# Altium schematic symbol library Connector.SchLib: 64 symbols
Pins are listed as number, name and electrical type; pins without a type are passive.

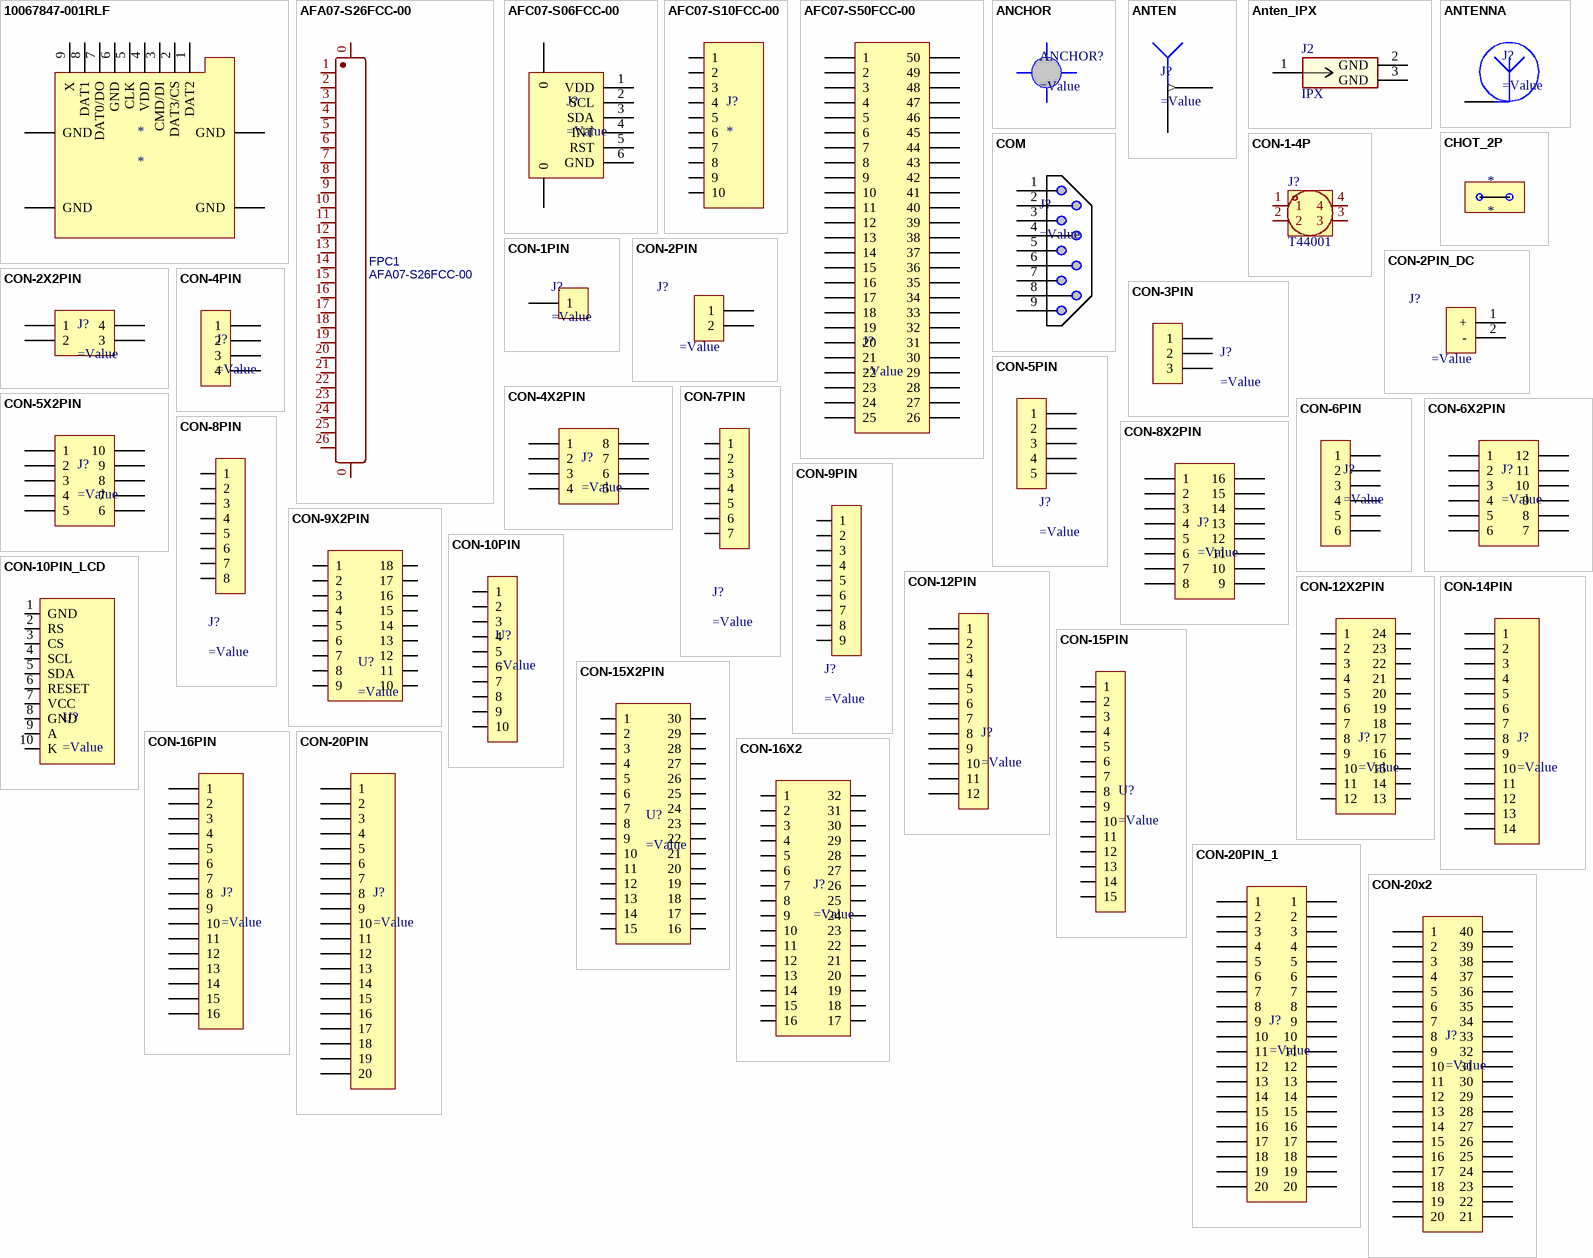
[diagram p0: symbols 10067847-001RLF to CON-20x2]

## 10067847-001RLF
designator *
pins: 1 DAT2, 2 DAT3/CS, 3 CMD/DI, 4 VDD, 5 CLK, 6 GND, 7 DAT0/DO, 8 DAT1, 9 X, GND, GND, GND, GND

## AFA07-S26FCC-00
designator FPC1
Manufacturer: JS(钜硕电子); Contributor: LCSC; Supplier: LCSC; Supplier Part: C262356; Manufacturer Part: AFA07-S26FCC-00; JLCPCB Part Class: Extended Part; spicePre: F; spiceSymbolName: AFA07-S26FCC-00
footprint FPC-SMD_26P-P1.00_L6.8-W33.0
pins: 0, 0, 1, 2, 3, 4, 5, 6, 7, 8, 9, 10, 11, 12, 13, 14, 15, 16, 17, 18, 19, 20, 21, 22, 23, 24, 25, 26

## AFC07-S06FCC-00
designator J?
=Description
pins: 0, 0, 1 VDD, 2 SCL, 3 SDA, 4 INT, 5 RST, 6 GND

## AFC07-S10FCC-00
designator J?
pins: 1, 2, 3, 4, 5, 6, 7, 8, 9, 10

## AFC07-S50FCC-00
designator J?
pins: 1, 2, 3, 4, 5, 6, 7, 8, 9, 10, 11, 12, 13, 14, 15, 16, 17, 18, 19, 20, 21, 22, 23, 24, 25, 26, 27, 28, 29, 30, 31, 32, 33, 34, 35, 36, 37, 38, 39, 40, 41, 42, 43, 44, 45, 46, 47, 48, 49, 50

## ANCHOR
designator ANCHOR?  (no BOM)
=Description

## ANTEN
designator J?
=Description
pins: 1, 2 (out)

## Anten_IPX
designator J2, comment IPX
1 Inner needle IPEX Board Edge 1.25mm -40℃~+90℃ 6GHz 50Ω 2mm SMD RF Connectors / Coaxial Connectors ROHS; Partnumber: U.FL-R-SMT-1(80); Manufacture: HRS(Hirose); Value: IPX; Category: Connector; Mounting type: Surface Mount; Detailed Value: IPX
footprint U.FL-R-SMT-1(80)
pins: 1, 2 GND, 3 GND

## ANTENNA
designator J?
=Description
pins: 1

## CHOT_2P
designator *

## COM
designator J?
=Description
pins: 1, 2, 3, 4, 5, 6, 7, 8, 9

## CON-1-4P
designator J?, comment T44001
Manufacturer: XFCN(兴飞); Add into BOM: yes; appearance and shape: Bench-shaped; Screw Hole Size: M4; Number of Leg: 4; Connectable Bits: 1; Direction of Connection: Top; Symbol: T44001; Device: T44001; LCSC Part Name: 四脚 M4 2件套; Supplier Part: C481447; Manufacturer Part: T44001; Supplier Footprint: 插件; JLCPCB Part Class: Extended Part; Datasheet: https://atta.szlcsc.com/upload/public/pdf/source/20241113/DBD34B45AB5A92804F3251B4AEFB1CE3.pdf; Supplier: LCSC; Convert to PCB: yes; Pin Spacing (Adjacent): -; Body Height: -; Rated Current: -; Body Material: -; Ontology Coating: -; Operating Temperature: -; Blade Width: -
pins: 1, 2, 3, 4

## CON-1PIN
designator J?
=Description
pins: 1

## CON-2PIN
designator J?
=Description
pins: 1, 2

## CON-2PIN_DC
designator J?
=Description
pins: 1 +, 2 -

## CON-2X2PIN
designator J?
=Description
pins: 1, 2, 3, 4

## CON-3PIN
designator J?
=Description
pins: 1, 2, 3

## CON-4PIN
designator J?
=Description
pins: 1, 2, 3, 4

## CON-4X2PIN
designator J?
=Description
pins: 1, 2, 3, 4, 5, 6, 7, 8

## CON-5PIN
designator J?
=Description
pins: 1, 2, 3, 4, 5

## CON-5X2PIN
designator J?
=Description
pins: 1, 2, 3, 4, 5, 6, 7, 8, 9, 10

## CON-6PIN
designator J?
=Description
pins: 1, 2, 3, 4, 5, 6

## CON-6X2PIN
designator J?
=Description
pins: 1, 2, 3, 4, 5, 6, 7, 8, 9, 10, 11, 12

## CON-7PIN
designator J?
=Description
footprint XH2.54-7P-R
pins: 1, 2, 3, 4, 5, 6, 7

## CON-8PIN
designator J?
=Description
pins: 1, 2, 3, 4, 5, 6, 7, 8

## CON-8X2PIN
designator J?
=Description
pins: 1, 2, 3, 4, 5, 6, 7, 8, 9, 10, 11, 12, 13, 14, 15, 16

## CON-9PIN
designator J?
=Description
pins: 1, 2, 3, 4, 5, 6, 7, 8, 9

## CON-9X2PIN
designator U?
=Description
pins: 1, 2, 3, 4, 5, 6, 7, 8, 9, 10, 11, 12, 13, 14, 15, 16, 17, 18

## CON-10PIN
designator U?
=Description
pins: 1, 2, 3, 4, 5, 6, 7, 8, 9, 10

## CON-10PIN_LCD
designator U?
=Description
pins: 1 GND, 2 RS, 3 CS, 4 SCL, 5 SDA, 6 RESET, 7 VCC, 8 GND, 9 A, 10 K

## CON-12PIN
designator J?
=Description
pins: 1, 2, 3, 4, 5, 6, 7, 8, 9, 10, 11, 12

## CON-12X2PIN
designator J?
=Description
pins: 1, 2, 3, 4, 5, 6, 7, 8, 9, 10, 11, 12, 13, 14, 15, 16, 17, 18, 19, 20, 21, 22, 23, 24

## CON-14PIN
designator J?
=Description
pins: 1, 2, 3, 4, 5, 6, 7, 8, 9, 10, 11, 12, 13, 14

## CON-15PIN
designator U?
=Description
pins: 1, 2, 3, 4, 5, 6, 7, 8, 9, 10, 11, 12, 13, 14, 15

## CON-15X2PIN
designator U?
=Description
pins: 1, 2, 3, 4, 5, 6, 7, 8, 9, 10, 11, 12, 13, 14, 15, 16, 17, 18, 19, 20, 21, 22, 23, 24, 25, 26, 27, 28, 29, 30

## CON-16PIN
designator J?
=Description
pins: 1, 2, 3, 4, 5, 6, 7, 8, 9, 10, 11, 12, 13, 14, 15, 16

## CON-16X2
designator J?
pins: 1, 2, 3, 4, 5, 6, 7, 8, 9, 10, 11, 12, 13, 14, 15, 16, 17, 18, 19, 20, 21, 22, 23, 24, 25, 26, 27, 28, 29, 30, 31, 32

## CON-20PIN
designator J?
=Description
pins: 1, 2, 3, 4, 5, 6, 7, 8, 9, 10, 11, 12, 13, 14, 15, 16, 17, 18, 19, 20

## CON-20PIN_1
designator J?
=Description
pins: 1, 1, 2, 2, 3, 3, 4, 4, 5, 5, 6, 6, 7, 7, 8, 8, 9, 9, 10, 10, 11, 11, 12, 12, 13, 13, 14, 14, 15, 15, 16, 16, 17, 17, 18, 18, 19, 19, 20, 20

## CON-20x2
designator J?
=Description
pins: 1, 2, 3, 4, 5, 6, 7, 8, 9, 10, 11, 12, 13, 14, 15, 16, 17, 18, 19, 20, 21, 22, 23, 24, 25, 26, 27, 28, 29, 30, 31, 32, 33, 34, 35, 36, 37, 38, 39, 40

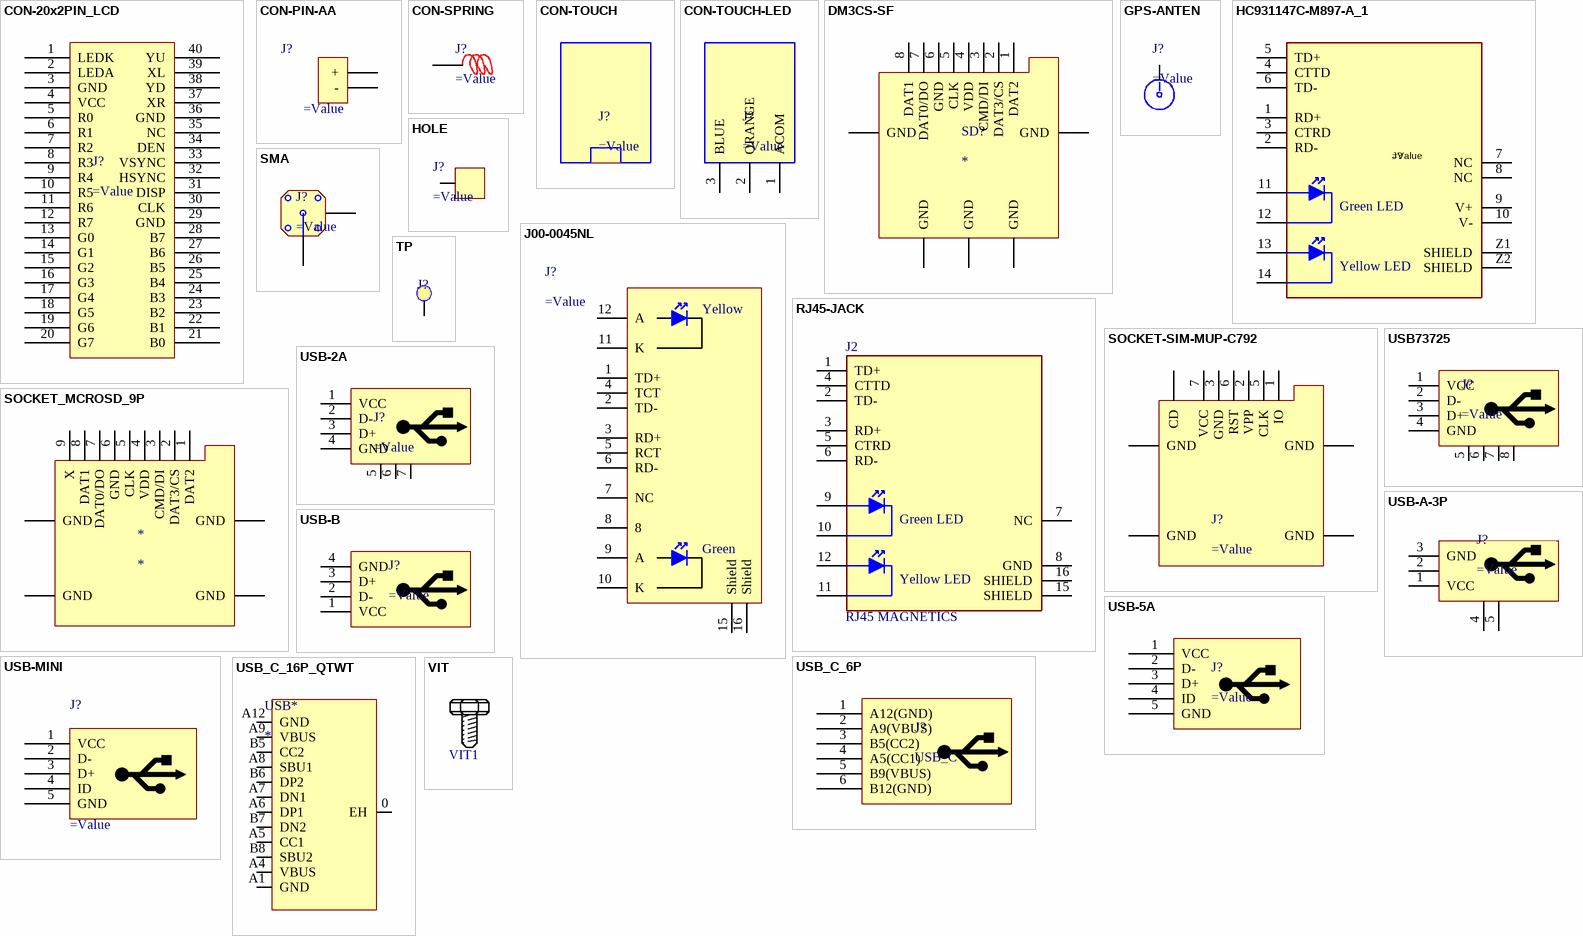
[diagram p1: symbols CON-20x2PIN_LCD to VIT]

## CON-20x2PIN_LCD
designator J?
=Description
pins: 1 LEDK, 2 LEDA, 3 GND, 4 VCC, 5 R0, 6 R1, 7 R2, 8 R3, 9 R4, 10 R5, 11 R6, 12 R7, 13 G0, 14 G1, 15 G2, 16 G3, 17 G4, 18 G5, 19 G6, 20 G7, 21 B0, 22 B1, 23 B2, 24 B3, 25 B4, 26 B5, 27 B6, 28 B7, 29 GND, 30 CLK, 31 DISP, 32 HSYNC, 33 VSYNC, 34 DEN, 35 NC, 36 GND, 37 XR, 38 YD, 39 XL, 40 YU

## CON-PIN-AA
designator J?
=Description
pins: 1 +, 2 -

## CON-SPRING
designator J?
=Description
pins: 1

## CON-TOUCH
designator J?  (no BOM)
=Description

## CON-TOUCH-LED
designator J?
=Description
pins: 1 ACOM, 2 ORANGE, 3 BLUE

## DM3CS-SF
designator SD?
pins: 0 GND, 0 GND, 0 GND, 0 GND, 1 DAT2, 1 GND, 2 DAT3/CS, 3 CMD/DI, 4 VDD, 5 CLK, 6 GND, 7 DAT0/DO, 8 DAT1

## GPS-ANTEN
designator J?
=Description
pins: 1

## HC931147C-M897-A_1
designator J?
=Description; Manufacturer: HCTL(华灿天禄); Symbol: HC931147C-M897-A; Add into BOM: yes; Connector Type: RJ45Receptacle; Number of Ports: 1; Shielding: Shielded; LED: WithLED; Soldering Temperature(Max): 260℃; Device: HC931147C-M897-A; LCSC Part Name: 弯插 带LED; Supplier Part: C3021372; Manufacturer Part: HC931147C-M897-A; Supplier Footprint: 插件; JLCPCB Part Class: Extended Part; Datasheet: https://atta.szlcsc.com/upload/public/pdf/source/20220525/3891CFB82DF437606D56A27967C83A95.pdf; Supplier: LCSC; Convert to PCB: yes; Mounting Style: Bend insert; Contact Material: Phosphor Bronze; Contact Plating: Gold; Operating Temperature Range: 0℃~+70℃
footprint RJ45-TH_HC931147C-M897-A
pins: 1 RD+, 2 RD-, 3 CTRD, 4 CTTD, 5 TD+, 6 TD-, 7 NC, 8 NC, 9 V+, 10 V-, 11 GA, 12 GC, 13 YA, 14 YC, Z1 SHIELD, Z2 SHIELD
text: Green LED; Yellow LED

## HOLE
designator J?
=Description
pins: 0

## J00-0045NL
designator J?
pins: 1 TD+, 1 A, 1 A, 2 TD-, 2 K, 2 K, 3 RD+, 4 TCT, 5 RCT, 6 RD-, 7 NC, 8, 9 A, 10 K, 11 K, 12 A, 15 Shield, 16 Shield
text: Yellow; Green

## RJ45-JACK
designator J2, comment RJ45 MAGNETICS
RJ45 RJReceptacle 1 WithLED Plugin Ethernet Connectors/Modular Connectors (RJ45 RJ11) ROHS; Partnumber: HR911105A; Manufacture: HANRUN; Link sale: #https://www.lcsc.com/product-detail/Ethernet-Connectors-Modular-Connectors-RJ45-RJ11_HANRUN-Zhongshan-HanRun-Elec-HR911105A_C12074.html#; Value: RJ45 MAGNETICS; Creator: dauthanhtrung.kma@gmail.com; Category: Connector; Mounting type: TH; Supplier: lcsc; Detailed Value: RJ45 MAGNETICS
footprint RJ45-HR911105A
pins: 1 TD+, 2 TD-, 3 RD+, 4 CTTD, 5 CTRD, 6 RD-, 7 NC, 8 GND (power), 9 GA, 10 GC, 11 YC, 12 YA, 15 SHIELD, 16 SHIELD
text: Green LED; Yellow LED

## SMA
designator J?
=Description
pins: 1, 2

## SOCKET-SIM-MUP-C792
designator J?
=Desscription
pins: 1 IO, 2 VPP, 3 GND, 5 CLK, 6 RST, 7 VCC, CD, GND, GND, GND, GND

## SOCKET_MCROSD_9P
designator *
pins: 1 DAT2, 2 DAT3/CS, 3 CMD/DI, 4 VDD, 5 CLK, 6 GND, 7 DAT0/DO, 8 DAT1, 9 X, GND, GND, GND, GND

## TP
designator J?  (no BOM)
=Description
pins: 1 TP

## USB73725
designator J?
=Description
pins: 1 VCC, 2 D-, 3 D+, 4 GND, 5, 6, 7, 8

## USB-2A
designator J?
=Description
pins: 1 VCC, 2 D-, 3 D+, 4 GND, 5, 6, 7

## USB-5A
designator J?
=Description
pins: 1 VCC, 2 D-, 3 D+, 4 ID, 5 GND

## USB-A-3P
designator J?
=Description
pins: 1 VCC, 2 D+, 3 GND, 4 ID, 5 GND

## USB-B
designator J?
=Description
pins: 1 VCC, 2 D-, 3 D+, 4 GND

## USB-MINI
designator J?
=Description; Part number: USB-B-Mini
pins: 1 VCC, 2 D-, 3 D+, 4 ID, 5 GND

## USB_C_6P
designator J?, comment USB_C
pins: 1 A12(GND), 2 A9(VBUS), 3 B5(CC2), 4 A5(CC1), 5 B9(VBUS), 6 B12(GND)

## USB_C_16P_QTWT
designator USB*
pins: 0 EH, A1 GND, A4 VBUS, A5 CC1, A6 DP1, A7 DN1, A8 SBU1, A9 VBUS, A12 GND, B5 CC2, B6 DP2, B7 DN2, B8 SBU2

## VIT
designator VIT1  (value not drawn)
3.5mm-4mm
footprint via-4mm (VIT-M4)
footprint via-3.2mm (VIT-M3)
pins: 1